# Altium schematic symbol library Schlib1.SchLib: 1 symbol
Pins are listed as number, name and electrical type; pins without a type are passive.

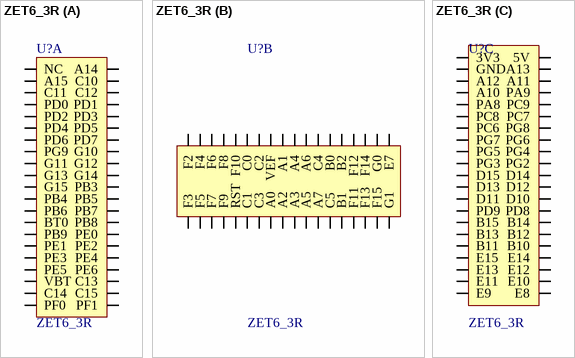
[diagram p0: symbol ZET6_3R]

## ZET6_3R
designator U?
footprint PCBComponent_1
part A pins: 1 NC, 2 A14, 3 A15, 4 C10, 5 C11, 6 C12, 7 PD0, 8 PD1, 9 PD2, 10 PD3, 11 PD4, 12 PD5, 13 PD6, 14 PD7, 15 PG9, 16 G10, 17 G11, 18 G12, 19 G13, 20 G14, 21 G15, 22 PB3, 23 PB4, 24 PB5, 25 PB6, 26 PB7, 27 BT0, 28 PB8, 29 PB9, 30 PE0, 31 PE1, 32 PE2, 33 PE3, 34 PE4, 35 PE5, 36 PE6, 37 VBT, 38 C13, 39 C14, 40 C15, 41 PF0, 42 PF1
part B pins: 43 F2, 44 F3, 45 F4, 46 F5, 47 F6, 48 F7, 49 F8, 50 F9, 51 F10, 52 RST, 53 C0, 54 C1, 55 C2, 56 C3, 57 VEF, 58 A0, 59 A1, 60 A2, 61 A4, 62 A3, 63 A6, 64 A5, 65 C4, 66 A7, 67 B0, 68 C5, 69 B2, 70 B1, 71 F12, 72 F11, 73 F14, 74 F13, 75 G0, 76 F15, 77 E7, 78 G1
part C pins: 79 E8, 80 E9, 81 E10, 82 E11, 83 E12, 84 E13, 85 E14, 86 E15, 87 B10, 88 B11, 89 B12, 90 B13, 91 B14, 92 B15, 93 PD8, 94 PD9, 95 D10, 96 D11, 97 D12, 98 D13, 99 D14, 100 D15, 101 PG2, 102 PG3, 103 PG4, 104 PG5, 105 PG6, 106 PG7, 107 PG8, 108 PC6, 109 PC7, 110 PC8, 111 PC9, 112 PA8, 113 PA9, 114 A10, 115 A11, 116 A12, 117 A13, 118 GND, 119 5V, 120 3V3